# EAGLE library part 691221120006 (library Wurth_Connectors_WR-TBL Rising Cage Clamp)
WR-TBL Serie 2211 - 3.50 mm 55° Entry Modular KIND PROPERTIES Pitch 3.5 mm MATERIAL PROPERTIES Insulator Material PA66 Insulator Flammability Rating UL94 V-0 Insulator Color Green Contact Material Brass Contact Plating Copper over Zinc Terminal Screw Material Steel Terminal Screw Plating Zinc Wire Guard Material Brass GENERAL INFORMATION Operating Temperature -40 up to +105 °C Compliance Lead free / RoHS ELECTRICAL PROPERTIES IR cULus 10 A Working Voltage [cULus] 300 V (AC) Withstanding Voltage [cULus] 1600 V (AC) Contact Resistance [cULus] 20 mΩ MECHANICAL PROPERTIES Wire Strip Length 5 up to 6 (mm) Screw M2 Solid Wire Section (AWG) 24 to 16 (AWG) Solid Wire Section (Metric) 0.205 to 1.31 (mm²) Stranded Wire Section (AWG) 24 to 16 (AWG) Stranded Wire Section (Metric) 0.205 to 1.31 (mm²) CERTIFICATION cULus Approval E315414 PACKAGING PROPERTIES Packaging Box <https://katalog.we-online.com/media/images/v2/o33239v209%20Family_WR-TBL_69122112000x.jpg> Details see: https://katalog.we-online.com/en/em/TBL_3_50_2211_55-DEGREE_ENTRY_MODULAR_69122112000X Updated by Ella Wu 2019-11-12 2019(C) Wurth Elektronik
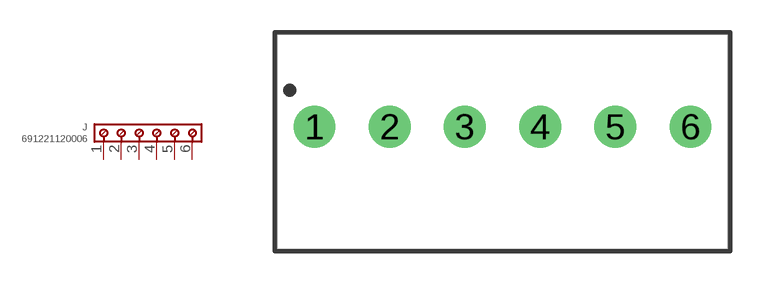
[diagram p79: symbol with the pads of 691221120006; footprint 691221120006]

Designator prefix J

## 691221120006 (DATASHEET-URL: https://www.we-online.com/redexpert/spec/691221120006?ae; IR-UL: 10A; MOUNT: THT; PART-NUMBER: 691221120006; PINS: 6; PITCH: 3.5mm; TYPE: 55°; WIRE: 24 to 16 (AWG) 0.205 to 1.31 (mm²); WORKING-VOLTAGE-UL: 300V (AC))  [691221120006]
1  1  pas
2  2  pas
3  3  pas
4  4  pas
5  5  pas
6  6  pas

## Footprint 691221120006 (pad centres in mm)
WR-TBL Serie 2211 - 3.50 mm 55° Entry Modular Max Height =9.47mm , Pitch 3.5mm , 6 Pins
drill 1.3: 1 -8.75,0; 2 -5.25,0; 3 -1.75,0; 4 1.75,0; 5 5.25,0; 6 8.75,0